# Altium footprint library DO-41_BD2.4-L4.7-P8.70-D0.9-RD.PcbLib: 1 footprints
Each footprint in its own frame and in the unit in brackets; x right, y up, seen from the top. Pads: shape width x height; smd on the part's side, far side on the other; paste and mask are expansions set on the pad; w line width, h text height; cw(c..) or ccw(c..) is an arc to the next point about the centre after c.
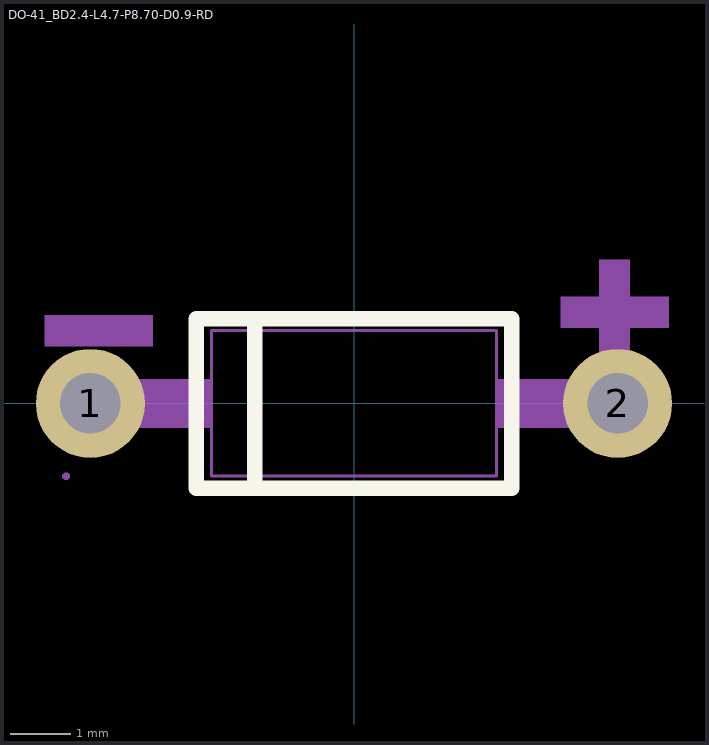
[diagram p0: the footprint, top view; thin cyan lines are the x and y axes]

## DO-41_BD2.4-L4.7-P8.70-D0.9-RD [mm]
pads (2):
  round 1.8 hole 1: 1(-4.35,0) 2(4.35,0)
Top Overlay:
  lines w0.254: -1.641,-1.4 -1.641,1.4 ; -2.6,-1.4 -2.6,1.4 2.6,1.4 2.6,-1.4 -2.6,-1.4
Mechanical 6:
  region: -5.102,1.451 -3.324,1.451 -3.324,0.943 -5.102,0.943
  region: 4.045,0.593 4.045,2.371 4.553,2.371 4.553,0.593
  region: 3.415,1.759 5.193,1.759 5.193,1.251 3.415,1.251
Mechanical 15:
  region: -2.34,0.4 -2.34,-0.4 -4.75,-0.4 -4.75,0.4
  region: 2.34,-0.4 2.34,0.4 4.75,0.4 4.75,-0.4
  region: -3.95,0 -3.95,-0.08 -4.011,-0.227 -4.123,-0.339 -4.27,-0.4 -4.43,-0.4 -4.577,-0.339 -4.689,-0.227 -4.75,-0.08 -4.75,0 -4.75,0.08 -4.689,0.227 -4.577,0.339 -4.43,0.4 -4.27,0.4 -4.123,0.339 -4.011,0.227 -3.95,0.08 -3.95,0
  region: 4.75,0 4.75,-0.08 4.689,-0.227 4.577,-0.339 4.43,-0.4 4.27,-0.4 4.123,-0.339 4.011,-0.227 3.95,-0.08 3.95,0 3.95,0.08 4.011,0.227 4.123,0.339 4.27,0.4 4.43,0.4 4.577,0.339 4.689,0.227 4.75,0.08 4.75,0
  region: -4.69,-1.2 -4.69,-1.225 -4.725,-1.26 -4.775,-1.26 -4.81,-1.225 -4.81,-1.2 -4.81,-1.175 -4.775,-1.14 -4.725,-1.14 -4.69,-1.175 -4.69,-1.2
  lines w0.051: -2.35,-1.2 2.35,-1.2 2.35,1.2 -2.35,1.2 -2.35,-1.2